# Altium schematic symbol library 9V_BATT.SchLib: 1 symbol
Pins are listed as number, name and electrical type; pins without a type are passive.

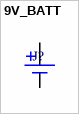
[diagram p0: symbol 9V_BATT]

## 9V_BATT
designator J?  (value not drawn)
pins: 1, 2